# Altium schematic symbol library ic-sensor.SchLib: 22 symbols
Pins are listed as number, name and electrical type; pins without a type are passive.

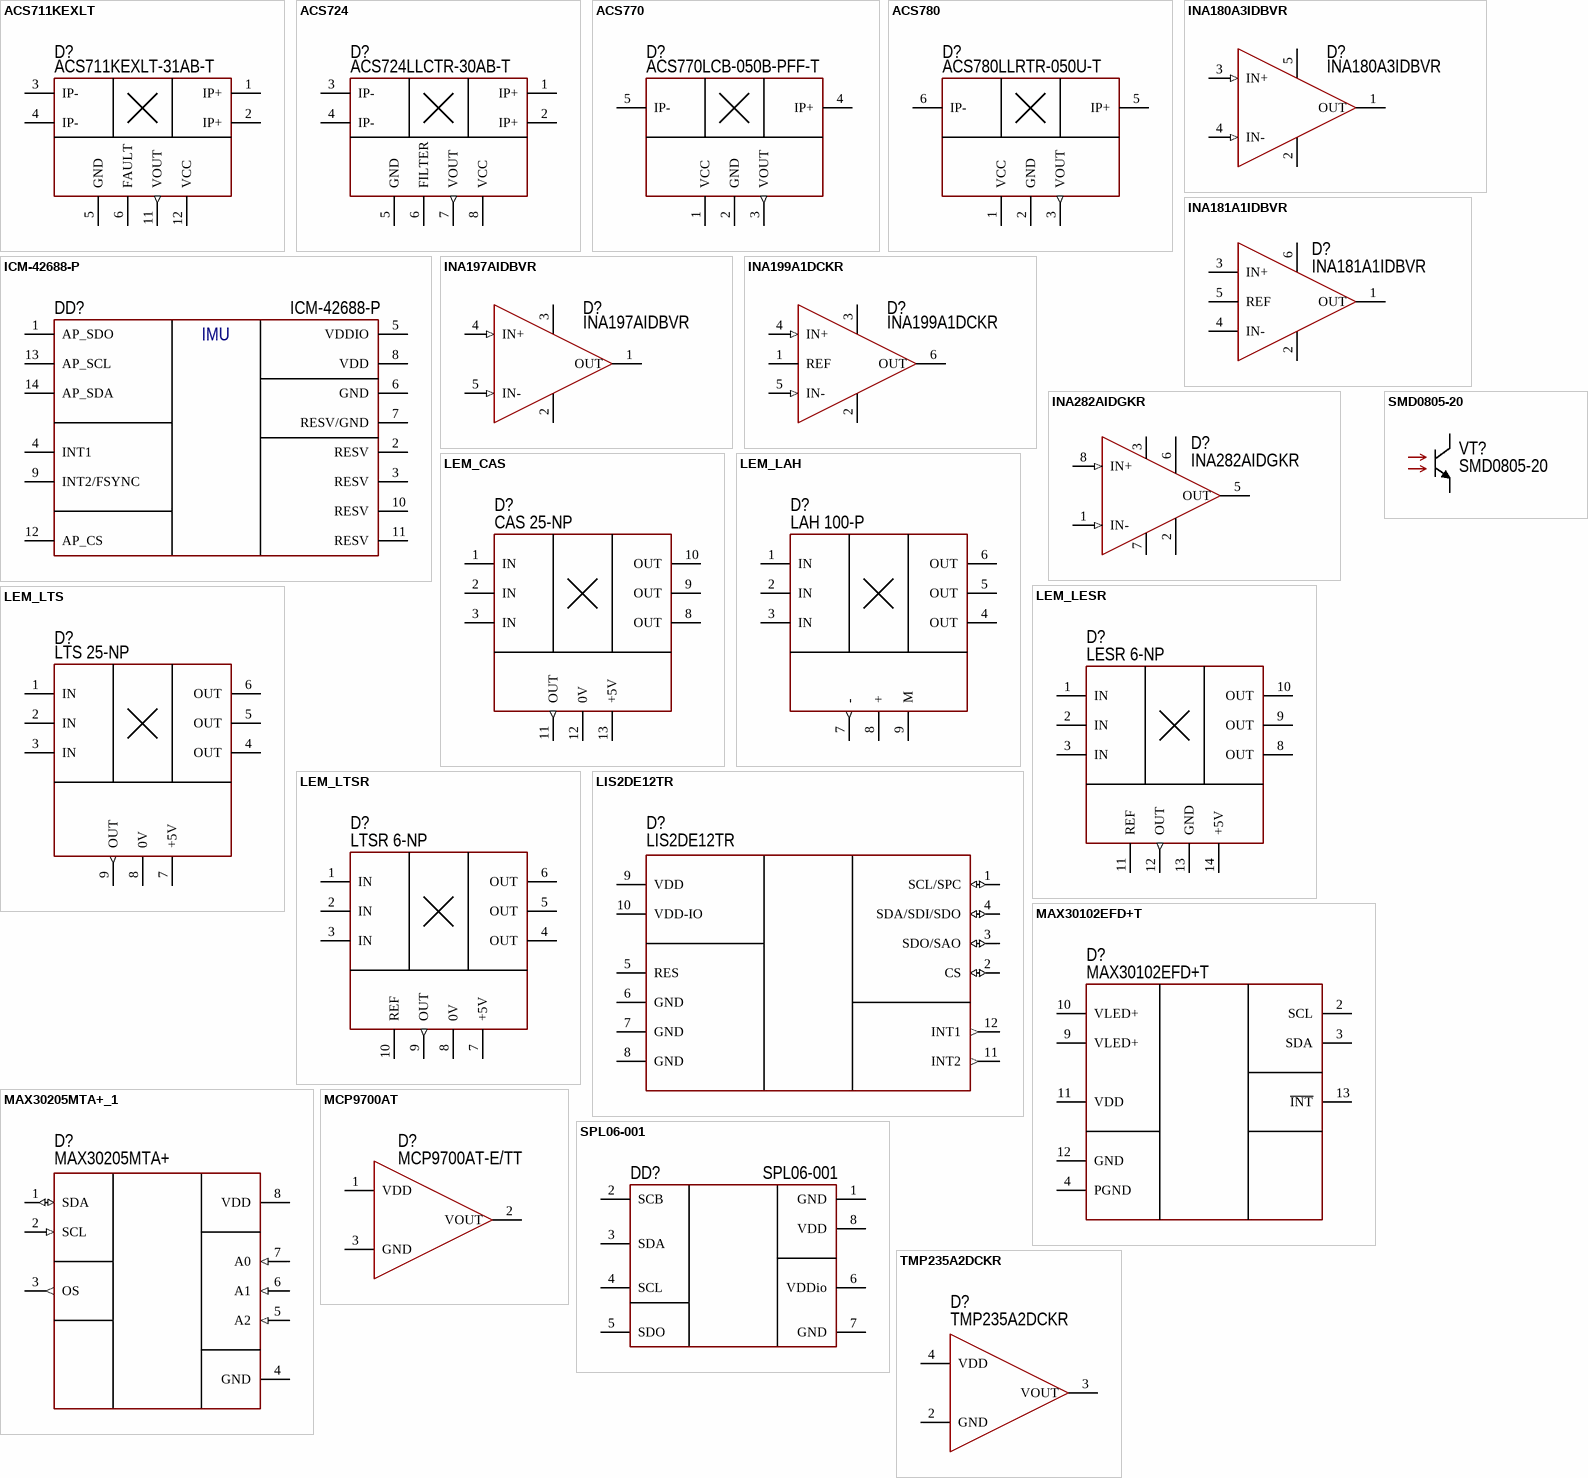
[diagram p0: symbols ACS711KEXLT to TMP235A2DCKR]

## ACS711KEXLT
designator D?  PartNumber: ACS711KEXLT-31AB-T
Current sensors; Manufacturer: Allegro MicroSystems; ValueManufacturerPartNumber: IC current sensors, 31A, ±0.6%, 100 kHz, 45mV/A, -40...+125°C, 12-PowerWFQFN; Supply: 3...5.5V; Accuracy: ±0.6%; GainBandwidth: 100 kHz; Sensitivity: 45mV/A; Sensing: 31A; HelpURL: https://www.digikey.com/product-detail/en/allegro-microsystems-llc/ACS711KEXLT-31AB-T/620-1482-1-ND/3868202; Package: 12-PowerWFQFN; ComponentType: IC current sensors; Temperature: -40...+125°C
footprint SENSOR: ACS711KEXLT
pins: 1 IP+, 2 IP+, 3 IP-, 4 IP-, 5 GND, 6 FAULT, 11 VOUT (out), 12 VCC

## ACS724
designator D?  PartNumber: ACS724LLCTR-30AB-T
Current sensors; Manufacturer: Allegro MicroSystems; ValueManufacturerPartNumber: IC current sensors, 30A, ±0.6%, 120 kHz, 66mV/A, -40...+150°C, 8-SOIC; Supply: 4.5...5.5V; Accuracy: ±0.6%; GainBandwidth: 120 kHz; Sensitivity: 66mV/A; Sensing: 30A; HelpURL: https://www.digikey.com/product-detail/en/allegro-microsystems-llc/ACS724LLCTR-30AB-T/620-1722-1-ND/5175299; Package: 8-SOIC; ComponentType: IC current sensors; Temperature: -40...+150°C
footprint 8-SOIC (pitch 1.27 mm)
pins: 1 IP+, 2 IP+, 3 IP-, 4 IP-, 5 GND, 6 FILTER, 7 VOUT (out), 8 VCC

## ACS770
designator D?  PartNumber: ACS770LCB-050B-PFF-T
Current sensors; Manufacturer: Allegro MicroSystems; ValueManufacturerPartNumber: IC current sensors, 50A, ±0.6%, 120 kHz, 40mV/A, -40...+150°C, 5-CB Module; Supply: 5V; Accuracy: ±0.6%; GainBandwidth: 120 kHz; Sensitivity: 40mV/A; Sensing: 50A; HelpURL: https://www.digikey.com/product-detail/en/texas-instruments/INA197AIDBVR/296-38949-1-ND/5143044; Package: 5-CB Module; ComponentType: IC current sensors; Temperature: -40...+150°C
footprint SENSOR: ACS770
pins: 1 VCC, 2 GND, 3 VOUT (out), 4 IP+, 5 IP-

## ACS780
designator D?  PartNumber: ACS780LLRTR-050U-T
Current sensors; Manufacturer: Allegro MicroSystems; ValueManufacturerPartNumber: IC current sensors, 50A, ±1.5%, 120 kHz, 60mV/A, -40...+150°C, 7-PSOF; Supply: 4.5...5.5V; Accuracy: ±1.5%; GainBandwidth: 120 kHz; Sensitivity: 60mV/A; Sensing: 50A; HelpURL: https://www.digikey.com/product-detail/en/allegro-microsystems-llc/ACS780LLRTR-050U-T/620-1818-1-ND/6189107; Package: 7-PSOF; ComponentType: IC current sensors; Temperature: -40...+150°C
footprint SENSOR: ACS781
pins: 1 VCC, 2 GND, 3 VOUT (out), 5 IP+, 6 IP-

## ICM-42688-P
designator DD?  PartNumber: ICM-42688-P
IMU Accelerometer/Gyro; Manufacturer: TDK; ValueManufacturerPartNumber: IMU, I3C/I2C/SPI, ±2°C, 0.5Hz ~ 2.69kHz, ±2g, 4g, 8g, 16g, -40...+85°C, 14-LGA; Supply: 1.71-3.6V; Accuracy: ±2°C; GainBandwidth: 0.5Hz ~ 2.69kHz; Sensitivity: ±2g, 4g, 8g, 16g; Sensing: I3C/I2C/SPI; HelpURL: https://d17t6iyxenbwp1.cloudfront.net/s3fs-public/2026-02/ds-000347_icm-42688-p-datasheet.pdf?VersionId=5mAW.NVu0p5eh4shmEAh_4g3T1KwrLS5; Package: 14-LGA; ComponentType: IMU; Temperature: -40...+85°C
footprint 14-LGA 2.5*3mm (4*3 pins)
pins: 1 AP_SDO, 2 RESV, 3 RESV, 4 INT1, 5 VDDIO, 6 GND, 7 RESV/GND, 8 VDD, 9 INT2/FSYNC, 10 RESV, 11 RESV, 12 AP_CS, 13 AP_SCL, 14 AP_SDA

## INA180A3IDBVR
designator D?  PartNumber: INA180A3IDBVR
Current monitor; Manufacturer: Texas Instruments; ValueManufacturerPartNumber: IC current monitor, ±1.5%, 100V/V, -0.3...+26V, -40...+125°C, SOT23-5; Supply: -0.3...+26V; Accuracy: ±1.5%; GainBandwidth: 100V/V; HelpURL: https://www.digikey.com/product-detail/en/texas-instruments/INA180A3IDBVR/296-47654-1-ND/8133023; Package: SOT23-5; ComponentType: IC current monitor; Temperature: -40...+125°C
footprint SOT23-5 (pitch 0.95 mm)
pins: 1 OUT (power), 2 V- (power), 3 IN+ (in), 4 IN- (in), 5 V+ (power)

## INA181A1IDBVR
designator D?  PartNumber: INA181A1IDBVR
Current monitor; Manufacturer: Texas Instruments; ValueManufacturerPartNumber: IC current monitor, ±3%, 350 kHz, 2.7...5.5V, -40...+125°C, SOT23-6; Supply: 2.7...5.5V; Accuracy: ±3%; GainBandwidth: 350 kHz; HelpURL: https://www.digikey.com/product-detail/en/texas-instruments/INA181A1IDBVR/296-47656-1-ND/8133025; Package: SOT23-6; ComponentType: IC current monitor; Temperature: -40...+125°C
footprint SOT23-6 (pitch 0.95 mm)
pins: 1 OUT (power), 2 V- (power), 3 IN+, 4 IN-, 5 REF, 6 V+ (power)

## INA197AIDBVR
designator D?  PartNumber: INA197AIDBVR
Current monitor; Manufacturer: Texas Instruments; ValueManufacturerPartNumber: IC current monitor, ±3%, 5.5 MHz, -16...+80V, -40...+125°C, SOT23-5; Supply: -16...+80V; Accuracy: ±3%; GainBandwidth: 5.5 MHz; HelpURL: https://www.digikey.com/product-detail/en/texas-instruments/INA197AIDBVR/296-38949-1-ND/5143044; Package: SOT23-5; ComponentType: IC current monitor; Temperature: -40...+125°C
footprint SOT23-5 (pitch 0.95 mm)
pins: 1 OUT (power), 2 V- (power), 3 V+ (power), 4 IN+ (in), 5 IN- (in)

## INA199A1DCKR
designator D?  PartNumber: INA199A1DCKR
Current monitor; Manufacturer: Texas Instruments; ValueManufacturerPartNumber: IC current monitor, ±1.5%, 50V/V, -0.3...+26V, -40...+125°C, SOT23-5; Supply: -0.3...+26V; Accuracy: ±1.5%; GainBandwidth: 50V/V; HelpURL: https://www.digikey.com/product-detail/en/texas-instruments/INA199A1DCKR/296-27329-1-ND/2279290; Package: SOT23-5; ComponentType: IC current monitor; Temperature: -40...+125°C
footprint SC70-6 (SOT23, 5-Leads, Body 2,90x2,80mm, Pitch 0,95mm, IPC Medium Density)
pins: 1 REF (power), 2 V- (power), 3 V+ (power), 4 IN+ (in), 5 IN- (in), 6 OUT (power)

## INA282AIDGKR
designator D?  PartNumber: INA282AIDGKR
Current monitor; Manufacturer: Texas Instruments; ValueManufacturerPartNumber: IC current monitor, ±0.4%, 50V/V, -14...+80V, -40...+125°C, MSOP-8; Supply: -14...+80V; Accuracy: ±0.4%; GainBandwidth: 50V/V; HelpURL: https://www.digikey.com/en/products/detail/texas-instruments/INA282AIDGKR/5267408; Package: MSOP-8; ComponentType: IC current monitor; Temperature: -40...+125°C
footprint 8-MSOP (pitch 0.65 mm)
pins: 1 IN- (in), 2 GND, 3 REF2, 5 OUT, 6 VCC, 7 REF1, 8 IN+ (in)

## LEM_CAS
designator D?  PartNumber: CAS 25-NP
Current sensors; Manufacturer: LEM; ValueManufacturerPartNumber: IC current sensors, 25A, ±0.8%, 200 kHz, 104.2mV/A, -40...+85°C; Supply: 5V; Accuracy: ±0.8%; GainBandwidth: 200 kHz; Sensitivity: 104.2mV/A; Sensing: 25A; HelpURL: https://www.lem.com/ru/product-list/cas-25np; Package: Module; ComponentType: IC current sensors; Temperature: -40...+85°C
footprint LEM_CAS (LEM Current Transducer, Body 21.91x13.4mm)
pins: 1 IN, 2 IN, 3 IN, 8 OUT, 9 OUT, 10 OUT, 11 OUT (out), 12 0V, 13 +5V

## LEM_LAH
designator D?  PartNumber: LAH 100-P
Current sensors; Manufacturer: LEM; ValueManufacturerPartNumber: IC current sensors, 100A, ±0.2%, 200 kHz, 1:20000, -25...+85°C; Supply: ±12V; Accuracy: ±0.2%; GainBandwidth: 200 kHz; Sensitivity: 1:20000; Sensing: 100A; HelpURL: https://www.digikey.com/product-detail/en/lem-usa-inc/LAH-100-P/398-1009-ND/409822; Package: Module; ComponentType: IC current sensors; Temperature: -25...+85°C
footprint LEM_LAH 25 (LEM Current Transducer, Body 33.5X15.13mm (max))
footprint LEM_LAH 50/100 (LEM Current Transducer, Body 33.4 x 15.13mm (max))
pins: 1 IN, 2 IN, 3 IN, 4 OUT, 5 OUT, 6 OUT, 7 - (out), 8 +, 9 M

## LEM_LESR
designator D?  PartNumber: LESR 6-NP
Current sensors; Manufacturer: LEM; ValueManufacturerPartNumber: IC current sensors, 6A, ±0.5%, 300 kHz, 104.2mV/A, -40...+105°C; Supply: 5V; Accuracy: ±0.5%; GainBandwidth: 300 kHz; Sensitivity: 104.2mV/A; Sensing: 6A; HelpURL: https://www.lem.com/ru/product-list/lesr-6np; Package: Module; ComponentType: IC current sensors; Temperature: -40...+105°C
footprint LEM_LESR (LEM Current Transducer, Body 22.2x10x24mm)
pins: 1 IN, 2 IN, 3 IN, 8 OUT, 9 OUT, 10 OUT, 11 REF, 12 OUT (out), 13 GND, 14 +5V

## LEM_LTS
designator D?  PartNumber: LTS 25-NP
Current sensors; Manufacturer: LEM; ValueManufacturerPartNumber: IC current sensors, 25A, ±0.2%, 200 kHz, 25mV/A, -40...+85°C; Supply: 5V; Accuracy: ±0.2%; GainBandwidth: 200 kHz; Sensitivity: 25mV/A; Sensing: 25A; HelpURL: https://www.digikey.com/product-detail/en/texas-instruments/INA197AIDBVR/296-38949-1-ND/5143044; Package: Module; ComponentType: IC current sensors; Temperature: -40...+85°C
footprint LEM_LTS (LEM Current Transducer, Body 22.2x10x24mm)
pins: 1 IN, 2 IN, 3 IN, 4 OUT, 5 OUT, 6 OUT, 7 +5V, 8 0V, 9 OUT (out)

## LEM_LTSR
designator D?  PartNumber: LTSR 6-NP
Current sensors; Manufacturer: LEM; ValueManufacturerPartNumber: IC current sensors, 6A, ±0.2%, 200 kHz, 104.16mV/A, -40...+85°C; Supply: 5V; Accuracy: ±0.2%; GainBandwidth: 200 kHz; Sensitivity: 104.16mV/A; Sensing: 6A; HelpURL: https://www.lem.com/sites/default/files/products_datasheets/ltsr_6-np.pdf; Package: Module; ComponentType: IC current sensors; Temperature: -40...+85°C
footprint LEM_LTSR (LEM Current Transducer, Body 22.2x10x24mm)
pins: 1 IN, 2 IN, 3 IN, 4 OUT, 5 OUT, 6 OUT, 7 +5V, 8 0V, 9 OUT (out), 10 REF

## LIS2DE12TR
designator D?  PartNumber: LIS2DE12TR
Accelerometer; Manufacturer: STMicroelectronics; ValueManufacturerPartNumber: IC Accelerometer, I²C/SPI, ±2°C, 0.5Hz ~ 2.69kHz, ±2g, 4g, 8g, 16g, -40...+85°C, 12-LGA; Supply: 2.3...5.5V; Accuracy: ±2°C; GainBandwidth: 0.5Hz ~ 2.69kHz; Sensitivity: ±2g, 4g, 8g, 16g; Sensing: I²C/SPI; HelpURL: https://www.digikey.com/en/products/detail/stmicroelectronics/LIS2DE12TR/5452394; Package: 12-LGA; ComponentType: IC Accelerometer; Temperature: -40...+85°C
footprint 12-LGA (2х2)
pins: 1 SCL/SPC (io), 2 CS (io), 3 SDO/SAO (io), 4 SDA/SDI/SDO (io), 5 RES, 6 GND, 7 GND, 8 GND, 9 VDD, 10 VDD-IO, 11 INT2 (out), 12 INT1 (out)

## MAX30102EFD+T
designator D?  PartNumber: MAX30102EFD+T
Oximeter/Heart Rate; Manufacturer: Maxim Integrated; ValueManufacturerPartNumber: IC Oximeter sensor, I²C, Biomedical sensor, +1.7...2V, -40...+85°C, OLG-14; Supply: +1.7...2V; Accuracy: I²C; GainBandwidth: Biomedical sensor; HelpURL: https://www.digikey.com/en/products/detail/maxim-integrated/MAX30102EFD-T/6188734; Package: OLG-14; ComponentType: IC Oximeter sensor; Temperature: -40...+85°C
footprint 14-OLG
pins: 2 SCL, 3 SDA, 4 PGND, 9 VLED+, 10 VLED+, 11 VDD, 12 GND, 13 ~{INT}

## MAX30205MTA+_1
designator D?  PartNumber: MAX30205MTA+
Temperature sensor; Manufacturer: Maxim Integrated; ValueManufacturerPartNumber: IC temperature sensor, I²C, ±0.1°C, 16 bit, OVT Limit, 0...+50°C, 8-DFN (3x3); Supply: 2.7...3.3V; Accuracy: ±0.1°C; GainBandwidth: 16 bit; Sensitivity: OVT Limit; Sensing: I²C; HelpURL: https://www.digikey.com/en/products/detail/maxim-integrated/MAX30205MTA/5880760; Package: 8-DFN (3x3); ComponentType: IC temperature sensor; Temperature: 0...+50°C
footprint 8-DFN (3x3, 0.5 mm) (3x3 mm, pitch 0.5 mm, power pad)
pins: 1 SDA (io), 2 SCL (in), 3 OS (out), 4 GND, 5 A2 (in), 6 A1 (in), 7 A0 (in), 8 VDD

## MCP9700AT
designator D?  PartNumber: MCP9700AT-E/TT
Temperature sensor; Manufacturer: Microchip; ValueManufacturerPartNumber: IC temperature sensor, Analog sensor, ±2°C, Voltage output, 10mV/°C, -40...+125°C, SOT-23-6; Supply: 2.3...5.5V; Accuracy: ±2°C; GainBandwidth: Voltage output; Sensitivity: 10mV/°C; Sensing: Analog sensor; HelpURL: https://www.digikey.com/product-detail/en/microchip-technology/MCP9700AT-E-TT/MCP9700AT-E-TTCT-ND/3622388; Package: SOT-23-6; ComponentType: IC temperature sensor; Temperature: -40...+125°C
footprint SOT23
pins: 1 VDD, 2 VOUT, 3 GND

## SMD0805-20
designator VT?  PartNumber: SMD0805-20
Light sensor; Manufacturer: Senba Sensing Tech; ValueManufacturerPartNumber: Opto-transistor sensors, Analog sensor, 100 Lux, 1mA output, 70mW, -40...+80°C, 0805; Supply: 1.3...5.5V; Accuracy: 100 Lux; GainBandwidth: 1mA output; Sensitivity: 70mW; Sensing: Analog sensor; HelpURL: https://lcsc.com/product-detail/Ambient-Light-Sensors_Senba-Sensing-Tech-SMD0805-20_C250858.html; Package: 0805; ComponentType: Opto-transistor sensors; Temperature: -40...+80°C
footprint LED_SMD_0805B
pins: 1 E, 2 C

## SPL06-001
designator DD?  PartNumber: SPL06-001
Pressure sensor; Manufacturer: Goertek; Supply: 1.7...3.6V; Pressure range: 300-1100hPa; Accuracy: ±0.12hPa; Sample rate: 157Hz; Sensitivity: OVT Limit; Sensing: I²C; HelpURL: https://static.chipdip.ru/lib/015/DOC043015640.pdf; Package: 8-LGA 2*2.5mm; ComponentType: IC pressure sensor; ValueManufacturerPartNumber: =ComponentType+', '+Sensing+', '+Accuracy+', '+GainBandwidth+', '+Sensitivity+', '+Temperature+', '+Package
footprint 8-LGA (2*2.5mm) (3x3 mm, pitch 0.5 mm, power pad)
pins: 1 GND, 2 SCB, 3 SDA, 4 SCL, 5 SDO, 6 VDDio, 7 GND, 8 VDD

## TMP235A2DCKR
designator D?  PartNumber: TMP235A2DCKR
Temperature sensor; Manufacturer: Texas Instruments; ValueManufacturerPartNumber: IC temperature sensor, Analog sensor, ±0.5°C, Voltage output, 10mV/°C, -50...+150°C, SC-70-5; Supply: 2.3...5.5V; Accuracy: ±0.5°C; GainBandwidth: Voltage output; Sensitivity: 10mV/°C; Sensing: Analog sensor; HelpURL: https://www.digikey.com/en/products/detail/texas-instruments/TMP235A2DCKR/8546324?s=N4IgTCBcDaICoFkAKYDMBWAgmAIgYQGkAlEAXQF8g; Package: SC-70-5; ComponentType: IC temperature sensor; Temperature: -50...+150°C
footprint SC70-5 (pitch 0.95 mm)
pins: 2 GND, 3 VOUT, 4 VDD